# EAGLE library part AK130/15 (library PTR_AK130)
ANSCHLUSSKLEMME AK130 (15POLIG)
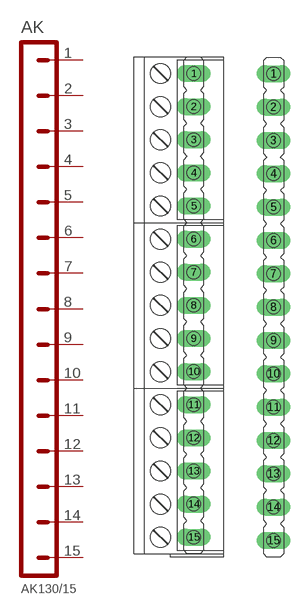
[diagram p9: symbol with the pads of AK15; footprints AK15, STL15]

Designator prefix AK

## AK130/15  [AK15]
1  P$1
2  P$2
3  P$3
4  P$4
5  P$5
6  P$6
7  P$7
8  P$8
9  P$9
10  P$10
11  P$11
12  P$12
13  P$13
14  P$14
15  P$15

## AK130/15_STL  [STL15]
Pads as for AK15

## Footprint AK15 (pad centres in mm)
AK130 (15POLIG) 3x AK130/5-5.0-GRAU STL130/24-5.0-V-SCHWARZ
drill 1.5 pad 2.54 long: 1 0,35; 2 0,30; 3 0,25; 4 0,20; 5 0,15; 6 0,10; 7 0,5; 8 0,0; 9 0,-5; 10 0,-10; 11 0,-15; 12 0,-20; 13 0,-25; 14 0,-30; 15 0,-35

## Footprint STL15 (pad centres in mm)
STL130 (15POLIG) STL130/24-5.0-V-SCHWARZ
drill 1.5 pad 2.54 long: 1 0,35; 2 0,30; 3 0,25; 4 0,20; 5 0,15; 6 0,10; 7 0,5; 8 0,0; 9 0,-5; 10 0,-10; 11 0,-15; 12 0,-20; 13 0,-25; 14 0,-30; 15 0,-35